# Altium footprint library PcbLib_Fontes_Chaveadas.PcbLib: 11 footprints
Each footprint in its own frame and in the unit in brackets; x right, y up, seen from the top. Pads: shape width x height; smd on the part's side, far side on the other; paste and mask are expansions set on the pad; w line width, h text height; cw(c..) or ccw(c..) is an arc to the next point about the centre after c.
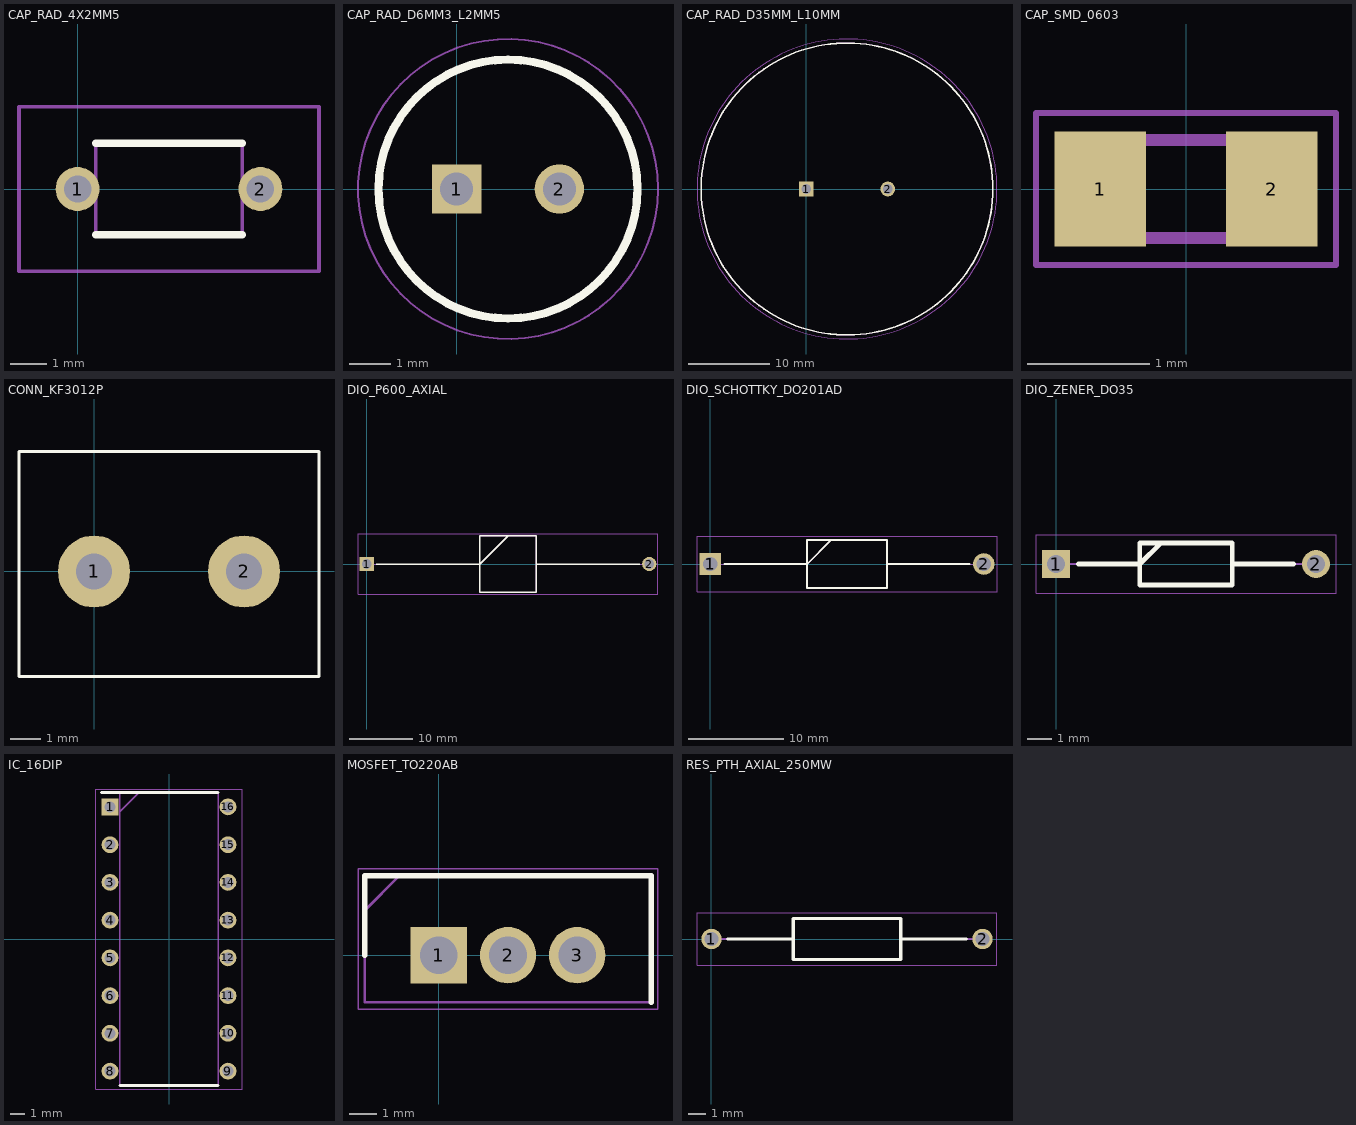
[diagram p0: the footprints below, top view; thin cyan lines are the x and y axes]

## CAP_RAD_4X2MM5 [mm] "Size / Dimension: 0.157\" L x 0.098\" W (4.00mm x 2.50mm)"
height 5
pads (2):
  round 1.2 hole 0.75: 1(0,0) 2(5,0)
Top Overlay:
  lines w0.2: 0.5,-1.25 4.5,-1.25 ; 0.5,1.25 4.5,1.25
Mechanical 13:
  lines w0.1: 0.5,-1.25 4.5,-1.25 4.5,1.25 0.5,1.25 0.5,-1.25
Mechanical 15:
  lines w0.1: -1.6,-2.25 6.6,-2.25 6.6,2.25 -1.6,2.25 -1.6,-2.25
3D body "RCE5C1H123J1DBH03A.stp": height 6.32, standoff -22.18, extent -0.25,-1.25 5.25,1.25

## CAP_RAD_D6MM3_L2MM5 [mm] "Size / Dimension: 0.248\" Dia (6.30mm)"
height 9.5
pads (2):
  rect 1.2x1.2 hole 0.8: 1(0,0)
  round 1.2 hole 0.8: 2(2.5,0)
Top Overlay:
  circle w0.2: c1.25,0 r3.15
Mechanical 13:
  circle w0.1: c1.25,0 r3.15
Mechanical 15:
  circle w0.05: c1.25,0 r3.65
3D body "870055673002.stp": height 9.5, standoff -10, extent -2.15,-3.399 4.65,3.399

## CAP_RAD_D35MM_L10MM [mm] "Size / Dimension: 1.378\" Dia (35.00mm)"
height 47
pads (2):
  rect 1.8x1.8 hole 1.2: 1(0,0)
  round 1.8 hole 1.2: 2(10,0)
Top Overlay:
  circle w0.2: c5,0 r17.875
Mechanical 13:
  circle w0.1: c5,0 r17.875
Mechanical 15:
  circle w0.05: c5,0 r18.375
3D body "LLS2A562MELC.stp": height 47, standoff -10, extent -13.25,-18.244 23.25,18.244

## CAP_SMD_0603 [mm] "0.063\" L x 0.031\" W (1.60mm x 0.80mm)"
height 0.9
pads (2):
  rect 0.75x0.94 smd: 1(-0.7,0) 2(0.7,0)
Mechanical 13:
  lines w0.1: -0.8,-0.4 0.8,-0.4 0.8,0.4 -0.8,0.4 -0.8,-0.4
Mechanical 15:
  lines w0.05: -1.225,-0.62 1.225,-0.62 1.225,0.62 -1.225,0.62 -1.225,-0.62
3D body "GRM1885C1H132JA01D.stp": height 0.25, standoff 0, extent 0,0 0.254,0.254

## CONN_KF3012P [mm]
pads (2):
  round 2.4 hole 1.2: 1(0,0) 2(5,0)
Top Overlay:
  lines w0.1: -2.5,-3.5 7.5,-3.5 7.5,4 -2.5,4 -2.5,-3.5
3D body "KF301-2P.stp": height 10, standoff -4.5, extent -2.99,-3.35 7.51,4.15

## DIO_P600_AXIAL [mm] "Package / Case: P600, Axial"
pads (2):
  rect 2.25x2.25 hole 1.5: 1(0,0)
  round 2.25 hole 1.5: 2(44.3,0)
Top Overlay:
  lines w0.2: 1.475,0 17.725,0 22.15,4.425 ; 26.575,0 42.825,0 ; 17.725,-4.425 17.725,4.425 26.575,4.425 26.575,-4.425 17.725,-4.425
Mechanical 13:
  lines w0.1: 0,0 17.725,0 22.15,4.425 ; 26.575,0 44.3,0 ; 17.725,-4.425 17.725,4.425 26.575,4.425 26.575,-4.425 17.725,-4.425
Mechanical 15:
  lines w0.05: -1.375,-4.775 -1.375,4.775 45.675,4.775 45.675,-4.775 -1.375,-4.775
3D body "P600B-E3_54.stp": height 0.25, standoff 0, extent 0,0 0.254,0.254

## DIO_SCHOTTKY_DO201AD [mm] "Package / Case: DO-201AD, Axial"
pads (2):
  rect 2.25x2.25 hole 1.5: 1(0,0)
  round 2.25 hole 1.5: 2(28.6,0)
Top Overlay:
  lines w0.2: 1.475,0 10.125,0 12.65,2.525 ; 18.475,0 27.125,0 ; 10.125,-2.525 18.475,-2.525 18.475,2.525 10.125,2.525 10.125,-2.525
Mechanical 13:
  lines w0.1: 0,0 10.125,0 12.65,2.525 ; 18.475,0 28.6,0 ; 10.125,-2.525 18.475,-2.525 18.475,2.525 10.125,2.525 10.125,-2.525
Mechanical 15:
  lines w0.05: -1.375,-2.875 29.975,-2.875 29.975,2.875 -1.375,2.875 -1.375,-2.875
3D body "SB340-E3_54.stp": height 5.3, standoff -5.3, extent -0.655,-2.649 29.21,2.649

## DIO_ZENER_DO35 [mm] "Package / Case: DO-204AH, DO-35, Axial"
pads (2):
  rect 1.15x1.15 hole 0.75: 1(0,0)
  round 1.15 hole 0.75: 2(10.7,0)
Top Overlay:
  lines w0.2: 0.925,0 3.448,0 4.308,0.86 ; 7.252,0 9.775,0 ; 3.448,-0.86 7.252,-0.86 7.252,0.86 3.448,0.86 3.448,-0.86
Mechanical 13:
  lines w0.1: 0,0 3.448,0 4.308,0.86 ; 7.252,0 10.7,0 ; 3.448,-0.86 7.253,-0.86 7.253,0.86 3.448,0.86 3.448,-0.86
Mechanical 15:
  lines w0.05: -0.825,-1.21 11.525,-1.21 11.525,1.21 -0.825,1.21 -0.825,-1.21
3D body "1N5230BTR.stp": height 1.91, standoff -1.91, extent -0.266,-0.955 10.951,0.955

## IC_16DIP [mm] "Package / Case: 16-DIP (0.300\", 7.62mm)"
height 5.08
pads (16):
  rect 1.13x1.13 hole 0.73: 1(-3.97,8.89)
  round 1.13 hole 0.73: 2(-3.97,6.35) 3(-3.97,3.81) 4(-3.97,1.27) 5(-3.97,-1.27) 6(-3.97,-3.81) 7(-3.97,-6.35) 8(-3.97,-8.89) 9(3.97,-8.89) 10(3.97,-6.35) 11(3.97,-3.81) 12(3.97,-1.27) 13(3.97,1.27) 14(3.97,3.81) 15(3.97,6.35) 16(3.97,8.89)
Top Overlay:
  lines w0.2: -4.535,9.845 3.3,9.845 ; -3.3,-9.845 3.3,-9.845
Mechanical 13:
  lines w0.1: -3.3,8.575 -2.03,9.845 ; -3.3,-9.845 -3.3,9.845 3.3,9.845 3.3,-9.845 -3.3,-9.845
Mechanical 15:
  lines w0.05: -4.945,-10.095 -4.945,10.095 4.945,10.095 4.945,-10.095 -4.945,-10.095
3D body "SG3524NG4.stp": height 0.25, standoff 0, extent 0,0 0.254,0.254

## MOSFET_TO220AB [mm] "Package / Case: TO-220-3"
height 4.65
pads (3):
  rect 2.07x2.07 hole 1.38: 1(0,0)
  round 2.07 hole 1.38: 2(2.54,0) 3(5.08,0)
Top Overlay:
  lines w0.2: -2.715,0 -2.715,2.92 7.795,2.92 7.795,-1.73
Mechanical 13:
  lines w0.1: -2.715,1.65 -1.445,2.92 ; -2.715,-1.73 7.795,-1.73 7.795,2.92 -2.715,2.92 -2.715,-1.73
Mechanical 15:
  lines w0.05: -2.965,-1.98 8.045,-1.98 8.045,3.17 -2.965,3.17 -2.965,-1.98
3D body "SUP70090E-GE3.stp": height 18.74, standoff -17.77, extent -2.598,-1.73 7.678,2.92

## RES_PTH_AXIAL_250MW [mm] "0.094\" Dia x 0.248\" L (2.40mm x 6.30mm)"
height 2.5
pads (2):
  round 1.2 hole 0.8: 1(0,0) 2(15.9,0)
Top Overlay:
  lines w0.2: 0.95,0 4.8,0 ; 11.1,0 14.95,0 ; 4.8,-1.2 11.1,-1.2 11.1,1.2 4.8,1.2 4.8,-1.2
Mechanical 13:
  lines w0.1: 0,0 4.8,0 ; 11.1,0 15.9,0 ; 4.8,-1.2 11.1,-1.2 11.1,1.2 4.8,1.2 4.8,-1.2
Mechanical 15:
  lines w0.05: -0.85,-1.55 16.75,-1.55 16.75,1.55 -0.85,1.55 -0.85,-1.55
3D body "CFR-25JB-52-1K2.stp": height 2.6, standoff -2.6, extent -0.298,-1.299 16.2,1.299